# Altium footprint library Button_Switch_THT.PcbLib: 106 footprints (part 6 of 7)
Each footprint in its own frame and in the unit in brackets; x right, y up, seen from the top. Pads: shape width x height; smd on the part's side, far side on the other; paste and mask are expansions set on the pad; w line width, h text height; cw(c..) or ccw(c..) is an arc to the next point about the centre after c.
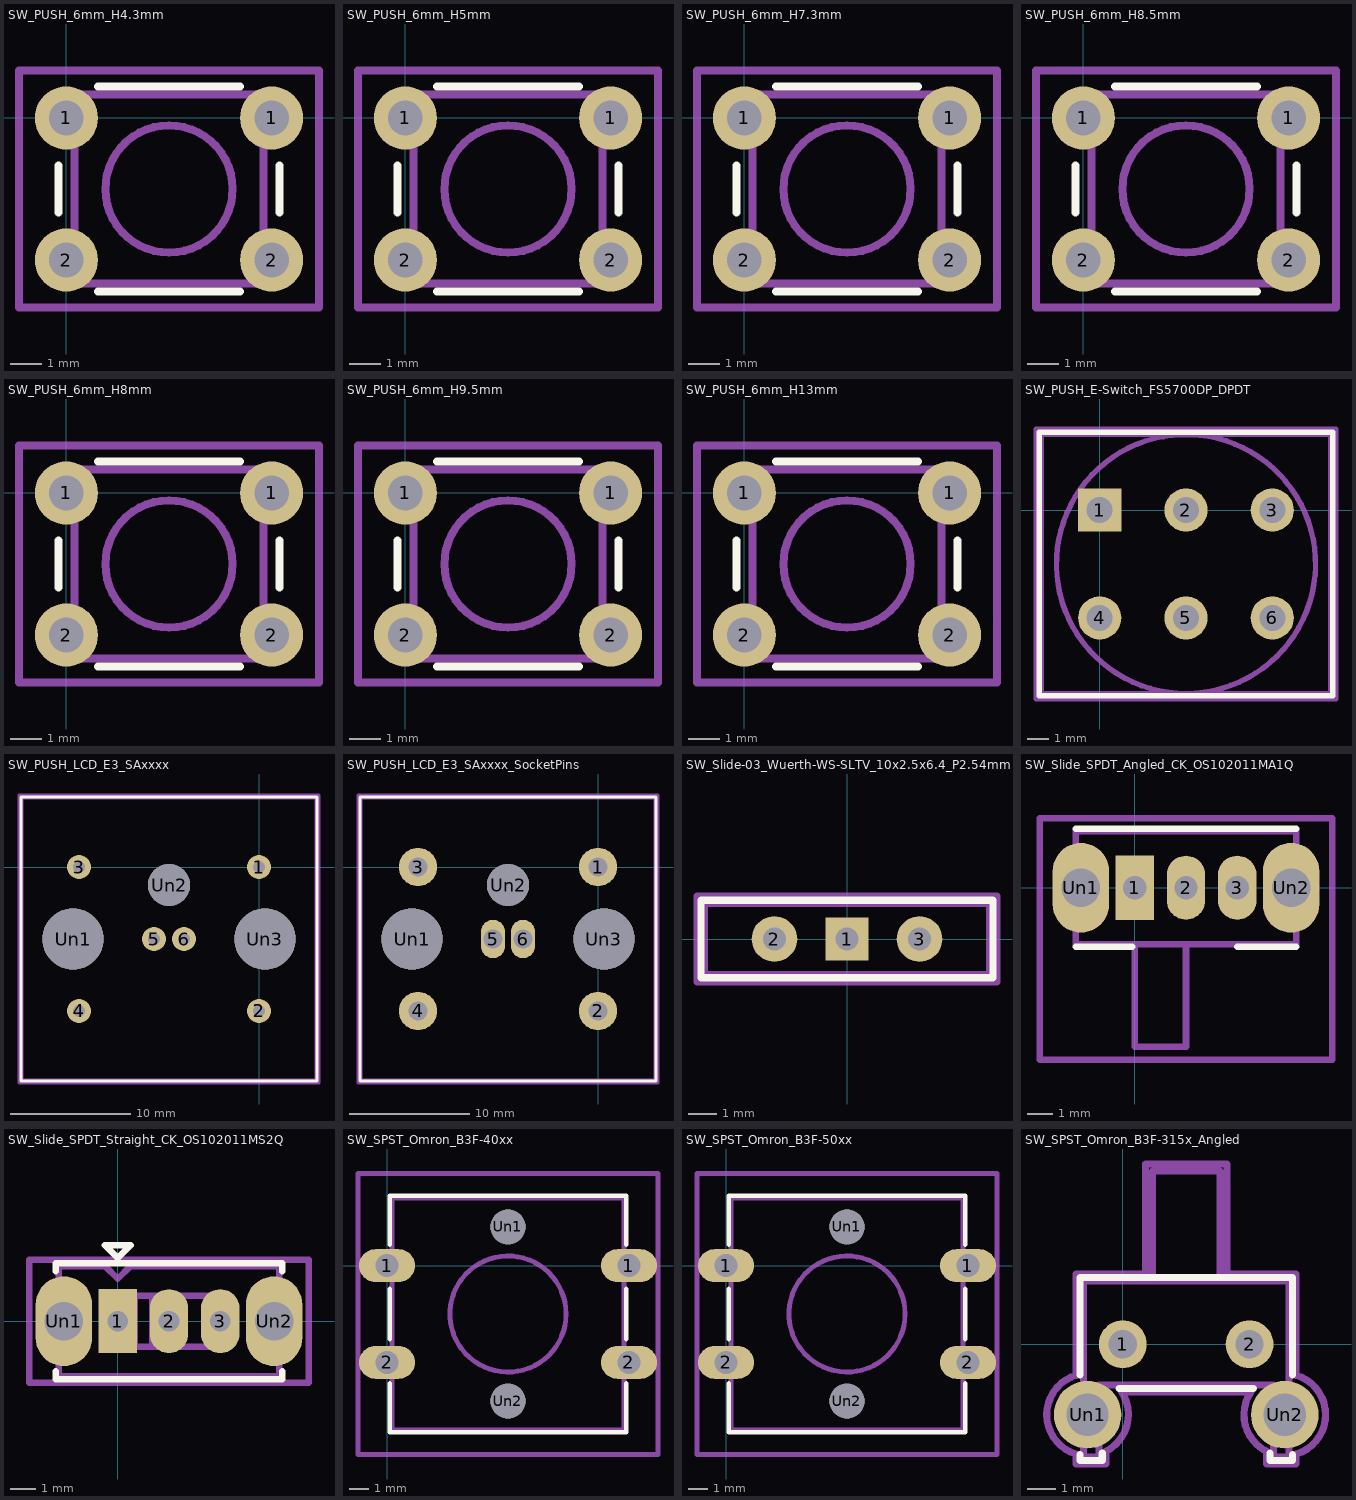
[diagram p5: the footprints below, top view; thin cyan lines are the x and y axes]

## SW_PUSH_6mm_H4.3mm [mm]
pads (4):
  round 2 hole 1.1: 1(0,0) 1(6.5,0) 2(0,-4.5) 2(6.5,-4.5)
F.SilkS:
  lines w0.254: -0.25,-3 -0.25,-1.5 ; 1,-5.5 5.5,-5.5 ; 1,1 5.5,1 ; 6.75,-3 6.75,-1.5
F.Fab:
  circle w0.254: c3.25,-2.25 r2.016
  lines w0.254: 0.25,-5.25 0.25,0.75 3.25,0.75 6.25,0.75 6.25,-5.25 0.25,-5.25
  text "'.Designator'" at -0.797,-3.09 h1
F.CrtYd:
  lines w0.254: -1.5,-6 -1.5,-5.75 -1.5,1.25 -1.5,1.5 -1.25,1.5 7.75,1.5 8,1.5 8,1.25 8,-5.75 8,-6 7.75,-6 -1.25,-6 -1.5,-6

## SW_PUSH_6mm_H5mm [mm]
pads (4):
  round 2 hole 1.1: 1(0,0) 1(6.5,0) 2(0,-4.5) 2(6.5,-4.5)
F.SilkS:
  lines w0.254: -0.25,-3 -0.25,-1.5 ; 1,-5.5 5.5,-5.5 ; 1,1 5.5,1 ; 6.75,-3 6.75,-1.5
F.Fab:
  circle w0.254: c3.25,-2.25 r2.016
  lines w0.254: 0.25,-5.25 0.25,0.75 3.25,0.75 6.25,0.75 6.25,-5.25 0.25,-5.25
  text "'.Designator'" at -0.797,-3.09 h1
F.CrtYd:
  lines w0.254: -1.5,-6 -1.5,-5.75 -1.5,1.25 -1.5,1.5 -1.25,1.5 7.75,1.5 8,1.5 8,1.25 8,-5.75 8,-6 7.75,-6 -1.25,-6 -1.5,-6

## SW_PUSH_6mm_H7.3mm [mm]
pads (4):
  round 2 hole 1.1: 1(0,0) 1(6.5,0) 2(0,-4.5) 2(6.5,-4.5)
F.SilkS:
  lines w0.254: -0.25,-3 -0.25,-1.5 ; 1,-5.5 5.5,-5.5 ; 1,1 5.5,1 ; 6.75,-3 6.75,-1.5
F.Fab:
  circle w0.254: c3.25,-2.25 r2.016
  lines w0.254: 0.25,-5.25 0.25,0.75 3.25,0.75 6.25,0.75 6.25,-5.25 0.25,-5.25
  text "'.Designator'" at -0.797,-3.09 h1
F.CrtYd:
  lines w0.254: -1.5,-6 -1.5,-5.75 -1.5,1.25 -1.5,1.5 -1.25,1.5 7.75,1.5 8,1.5 8,1.25 8,-5.75 8,-6 7.75,-6 -1.25,-6 -1.5,-6

## SW_PUSH_6mm_H8.5mm [mm]
pads (4):
  round 2 hole 1.1: 1(0,0) 1(6.5,0) 2(0,-4.5) 2(6.5,-4.5)
F.SilkS:
  lines w0.254: -0.25,-3 -0.25,-1.5 ; 1,-5.5 5.5,-5.5 ; 1,1 5.5,1 ; 6.75,-3 6.75,-1.5
F.Fab:
  circle w0.254: c3.25,-2.25 r2.016
  lines w0.254: 0.25,-5.25 0.25,0.75 3.25,0.75 6.25,0.75 6.25,-5.25 0.25,-5.25
  text "'.Designator'" at -0.797,-3.09 h1
F.CrtYd:
  lines w0.254: -1.5,-6 -1.5,-5.75 -1.5,1.25 -1.5,1.5 -1.25,1.5 7.75,1.5 8,1.5 8,1.25 8,-5.75 8,-6 7.75,-6 -1.25,-6 -1.5,-6

## SW_PUSH_6mm_H8mm [mm]
pads (4):
  round 2 hole 1.1: 1(0,0) 1(6.5,0) 2(0,-4.5) 2(6.5,-4.5)
F.SilkS:
  lines w0.254: -0.25,-3 -0.25,-1.5 ; 1,-5.5 5.5,-5.5 ; 1,1 5.5,1 ; 6.75,-3 6.75,-1.5
F.Fab:
  circle w0.254: c3.25,-2.25 r2.016
  lines w0.254: 0.25,-5.25 0.25,0.75 3.25,0.75 6.25,0.75 6.25,-5.25 0.25,-5.25
  text "'.Designator'" at -0.797,-3.09 h1
F.CrtYd:
  lines w0.254: -1.5,-6 -1.5,-5.75 -1.5,1.25 -1.5,1.5 -1.25,1.5 7.75,1.5 8,1.5 8,1.25 8,-5.75 8,-6 7.75,-6 -1.25,-6 -1.5,-6

## SW_PUSH_6mm_H9.5mm [mm]
pads (4):
  round 2 hole 1.1: 1(0,0) 1(6.5,0) 2(0,-4.5) 2(6.5,-4.5)
F.SilkS:
  lines w0.254: -0.25,-3 -0.25,-1.5 ; 1,-5.5 5.5,-5.5 ; 1,1 5.5,1 ; 6.75,-3 6.75,-1.5
F.Fab:
  circle w0.254: c3.25,-2.25 r2.016
  lines w0.254: 0.25,-5.25 0.25,0.75 3.25,0.75 6.25,0.75 6.25,-5.25 0.25,-5.25
  text "'.Designator'" at -0.797,-3.09 h1
F.CrtYd:
  lines w0.254: -1.5,-6 -1.5,-5.75 -1.5,1.25 -1.5,1.5 -1.25,1.5 7.75,1.5 8,1.5 8,1.25 8,-5.75 8,-6 7.75,-6 -1.25,-6 -1.5,-6

## SW_PUSH_6mm_H13mm [mm]
pads (4):
  round 2 hole 1.1: 1(0,0) 1(6.5,0) 2(0,-4.5) 2(6.5,-4.5)
F.SilkS:
  lines w0.254: -0.25,-3 -0.25,-1.5 ; 1,-5.5 5.5,-5.5 ; 1,1 5.5,1 ; 6.75,-3 6.75,-1.5
F.Fab:
  circle w0.254: c3.25,-2.25 r2.016
  lines w0.254: 0.25,-5.25 0.25,0.75 3.25,0.75 6.25,0.75 6.25,-5.25 0.25,-5.25
  text "'.Designator'" at -0.797,-3.09 h1
F.CrtYd:
  lines w0.254: -1.5,-6 -1.5,-5.75 -1.5,1.25 -1.5,1.5 -1.25,1.5 7.75,1.5 8,1.5 8,1.25 8,-5.75 8,-6 7.75,-6 -1.25,-6 -1.5,-6

## SW_PUSH_E-Switch_FS5700DP_DPDT [mm]
pads (6):
  rect 2x2 hole 1.2: 1(0,0)
  round 2 hole 1.2: 2(4,0) 3(8,0) 4(0,-5) 5(4,-5) 6(8,-5)
F.SilkS:
  lines w0.254: -2.8,-8.6 -2.8,3.6 10.8,3.6 10.8,-8.6 -2.8,-8.6
F.Fab:
  circle w0.254: c4,-2.5 r6.001
  lines w0.254: -2.7,-8.5 -2.7,3.5 10.7,3.5 10.7,-8.5 -2.7,-8.5
  text "'.Designator'" at -0.047,-3.34 h1
F.CrtYd:
  lines w0.254: -2.95,-8.75 -2.95,3.75 10.95,3.75 10.95,-8.75 -2.95,-8.75

## SW_PUSH_LCD_E3_SAxxxx [mm]
pads (9):
  round 2 hole 1: 1(0,0) 2(0,-12) 3(-15,0) 4(-15,-12) 5(-8.75,-6) 6(-6.25,-6)
  round 5.1 hole 5.1: Un1(-15.5,-6) Un3(0.5,-6)
  round 3.5 hole 3.5: Un2(-7.5,-1.5)
F.SilkS:
  lines w0.254: -19.85,-17.85 -19.85,5.85 4.85,5.85 4.85,-17.85 -19.85,-17.85
F.Fab:
  lines w0.254: -19.75,-17.75 -19.75,5.75 4.75,5.75 4.75,-17.75 -19.75,-17.75
  text "'.Designator'" at -11.547,-6.84 h1
F.CrtYd:
  lines w0.254: -20,-18 -20,6 5,6 5,-18 -20,-18

## SW_PUSH_LCD_E3_SAxxxx_SocketPins [mm]
pads (9):
  round 3.2 hole 1.6: 1(0,0) 2(0,-12) 3(-15,0) 4(-15,-12)
  rrect100% 2x3.2 hole 1.6: 5(-8.75,-6) 6(-6.25,-6)
  round 5.1 hole 5.1: Un1(-15.5,-6) Un3(0.5,-6)
  round 3.5 hole 3.5: Un2(-7.5,-1.5)
F.SilkS:
  lines w0.254: -19.85,-17.85 -19.85,5.85 4.85,5.85 4.85,-17.85 -19.85,-17.85
F.Fab:
  lines w0.254: -19.75,-17.75 -19.75,5.75 4.75,5.75 4.75,-17.75 -19.75,-17.75
  text "'.Designator'" at -11.547,-6.84 h1
F.CrtYd:
  lines w0.254: -20,-18 -20,6 5,6 5,-18 -20,-18

## SW_Slide-03_Wuerth-WS-SLTV_10x2.5x6.4_P2.54mm [mm]
pads (3):
  rect 1.5x1.5 hole 0.8: 1(0,0)
  round 1.6 hole 0.8: 2(-2.54,0) 3(2.54,0)
F.SilkS:
  lines w0.254: -5.11,-1.36 -5.11,1.36 5.11,1.36 5.11,-1.36 -5.11,-1.36
F.Fab:
  lines w0.254: -5,-1.25 -5,1.25 5,1.25 5,-1.25 -5,-1.25
  text "'.Designator'" at -4.047,-3.38 h1
F.CrtYd:
  lines w0.254: -5.25,-1.5 -5.25,1.5 5.25,1.5 5.25,-1.5 -5.25,-1.5

## SW_Slide_SPDT_Angled_CK_OS102011MA1Q [mm]
pads (5):
  rect 1.5x2.5 hole 0.9: 1(0,0)
  rrect100% 1.5x2.5 hole 0.9: 2(2,0) 3(4,0)
  rrect100% 2.2x3.5 hole 1.5: Un1(-2.1,0) Un2(6.1,0)
F.SilkS:
  lines w0.254: -2.3,-2.3 -0.1,-2.3 ; -2.3,2.3 6.3,2.3 ; 4,-2.3 6.3,-2.3
F.Fab:
  lines w0.254: 0,-2.2 0,-6.2 2,-6.2 2,-2.2 ; -2.3,-2.2 -2.3,2.2 6.3,2.2 6.3,-2.2 -2.3,-2.2
  text "'.Designator'" at 0.252,-2.145 h0.5
F.CrtYd:
  lines w0.254: -3.7,-6.7 -3.7,2.7 7.7,2.7 7.7,-6.7 -3.7,-6.7

## SW_Slide_SPDT_Straight_CK_OS102011MS2Q [mm]
pads (5):
  rect 1.5x2.5 hole 0.8: 1(0,0)
  rrect100% 1.5x2.5 hole 0.8: 2(2,0) 3(4,0)
  rrect100% 2.2x3.5 hole 1.5: Un1(-2.1,0) Un2(6.1,0)
F.SilkS:
  lines w0.254: -2.41,-1.95 -2.41,-2.26 6.41,-2.26 6.41,-1.95 ; -2.41,1.95 -2.41,2.26 6.41,2.26 6.41,1.95 ; -0.5,2.96 0,2.46 0.5,2.96 -0.5,2.96
F.Fab:
  lines w0.254: 0.66,-1 0.66,1 ; 1.34,-1 1.34,1 ; 2,-1 2,1 ; -2.3,-2.15 -2.3,2.15 -0.5,2.15 0,1.65 0.5,2.15 6.3,2.15 6.3,-2.15 -2.3,-2.15 ; 0,-1 0,1 4,1 4,-1 0,-1
  text "'.Designator'" at -0.057,2.15 h1
B.CrtYd:
  lines w0.254: -3.45,-2.4 -3.45,2.4 7.45,2.4 7.45,-2.4 -3.45,-2.4

## SW_SPST_Omron_B3F-40xx [mm]
pads (6):
  rrect100% 2.9x1.7 hole 1.2: 1(0,0) 1(12.5,0) 2(0,-5) 2(12.5,-5)
  round 1.8 hole 1.8: Un1(6.25,2) Un2(6.25,-7)
F.SilkS:
  lines w0.254: 0.14,-6.1 0.14,-8.61 12.36,-8.61 12.36,-6.1 ; 0.14,-3.8 0.14,-1.2 ; 0.14,1.1 0.14,3.61 12.36,3.61 12.36,1.1 ; 12.36,-3.8 12.36,-1.2
F.Fab:
  circle w0.254: c6.25,-2.5 r3
  lines w0.254: 0.25,-8.5 0.25,3.5 12.25,3.5 12.25,-8.5 0.25,-8.5
  text "'.Designator'" at 2.203,-3.34 h1
F.CrtYd:
  lines w0.254: -1.5,-9.75 -1.5,4.75 14,4.75 14,-9.75 -1.5,-9.75

## SW_SPST_Omron_B3F-50xx [mm]
pads (6):
  rrect100% 2.9x1.7 hole 1.2: 1(0,0) 1(12.5,0) 2(0,-5) 2(12.5,-5)
  round 1.8 hole 1.8: Un1(6.25,2) Un2(6.25,-7)
F.SilkS:
  lines w0.254: 0.14,-6.1 0.14,-8.61 12.36,-8.61 12.36,-6.1 ; 0.14,-3.8 0.14,-1.2 ; 0.14,1.1 0.14,3.61 12.36,3.61 12.36,1.1 ; 12.36,-3.8 12.36,-1.2
F.Fab:
  circle w0.254: c6.25,-2.5 r3
  lines w0.254: 0.25,-8.5 0.25,3.5 12.25,3.5 12.25,-8.5 0.25,-8.5
  text "'.Designator'" at 2.203,-3.34 h1
F.CrtYd:
  lines w0.254: -1.5,-9.75 -1.5,4.75 14,4.75 14,-9.75 -1.5,-9.75

## SW_SPST_Omron_B3F-315x_Angled [mm]
pads (4):
  round 1.7 hole 1: 1(0,0) 2(4.5,0)
  round 2.4 hole 1.5: Un1(-1.25,-2.5) Un2(5.75,-2.5)
F.SilkS:
  lines w0.254: -1.52,-3.92 -1.52,-4.12 -0.73,-4.12 -0.73,-3.87 ; -1.52,-1.08 -1.52,2.37 6.02,2.37 6.02,-1.08 ; -0.14,-1.57 4.64,-1.57 ; 5.23,-3.87 5.23,-4.12 6.02,-4.12 6.02,-3.92
F.Fab:
  lines w0.254: 1.05,2.25 1.05,6.15 3.45,6.15 3.45,2.25 ; -1.4,-4 -1.4,2.25 5.9,2.25 5.9,-4 5.35,-4 5.35,-1.45 -0.85,-1.45 -0.85,-4 -1.4,-4
  text "'.Designator'" at -1.797,0.66 h1
F.CrtYd:
  lines w0.254: -1.65,-4.25 -1.65,-3.9 cw(c-1.242,-2.5) -1.65,-1.1 -1.65,2.5 0.8,2.5 0.8,6.4 3.7,6.4 3.7,2.5 6.15,2.5 6.15,-1.1 cw(c5.742,-2.5) 6.15,-3.9 6.15,-4.25 5.1,-4.25 5.1,-3.8 cw(c5.754,-2.501) 4.54,-1.7 -0.04,-1.7 cw(c-1.262,-2.499) -0.6,-3.8 -0.6,-4.25 -1.65,-4.25